# EAGLE library part 2-5499206-1 (library 2-5499206-1)
10 way male straight side latch header Source: Datasheet <https://www.te.com/commerce/DocumentDelivery/DDEController?Action=showdoc&DocId=Customer Drawing5499206E1pdfEnglishENG_CD_5499206_E1.pdf2-5499206-1>
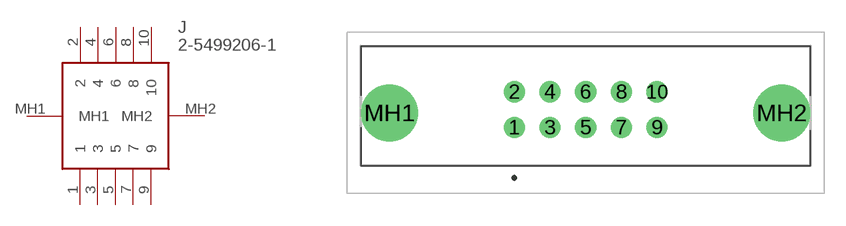
[diagram p0: symbol with the pads of 254992061; footprint 254992061]

Designator prefix J

## 2-5499206-1 (Arrow_Part_Number: 2-5499206-1; Arrow_Price-Stock: https://www.arrow.com/en/products/2-5499206-1/te-connectivity; Description: 10 way male straight side latch header; Height: 27.81mm; Manufacturer_Name: TE Connectivity; Manufacturer_Part_Number: 2-5499206-1; Mouser_Part_Number: 571-2-5499206-1; Mouser_Price-Stock: https://www.mouser.co.uk/ProductDetail/TE-Connectivity/2-5499206-1?qs=0WAkd%2F2UZ9TyW1Tlji91VQ%3D%3D)  [254992061]
1  1
2  2
3  3
4  4
5  5
6  6
7  7
8  8
9  9
10  10
MH1  MH1
MH2  MH2

## Footprint 254992061 (pad centres in mm)
2-5499206-1-2
drill 0.97 pad 1.509: 1 0,0; 2 0,2.54; 3 2.54,0; 4 2.54,2.54; 5 5.08,0; 6 5.08,2.54; 7 7.62,0; 8 7.62,2.54; 9 10.16,0; 10 10.16,2.54
drill 2.69 pad 4.035: MH1 -8.89,1.02; MH2 19.05,1.02